# Altium footprint library E-component.PcbLib: 39 footprints (part 3 of 3)
Each footprint in its own frame and in the unit in brackets; x right, y up, seen from the top. Pads: shape width x height; smd on the part's side, far side on the other; paste and mask are expansions set on the pad; w line width, h text height; cw(c..) or ccw(c..) is an arc to the next point about the centre after c.
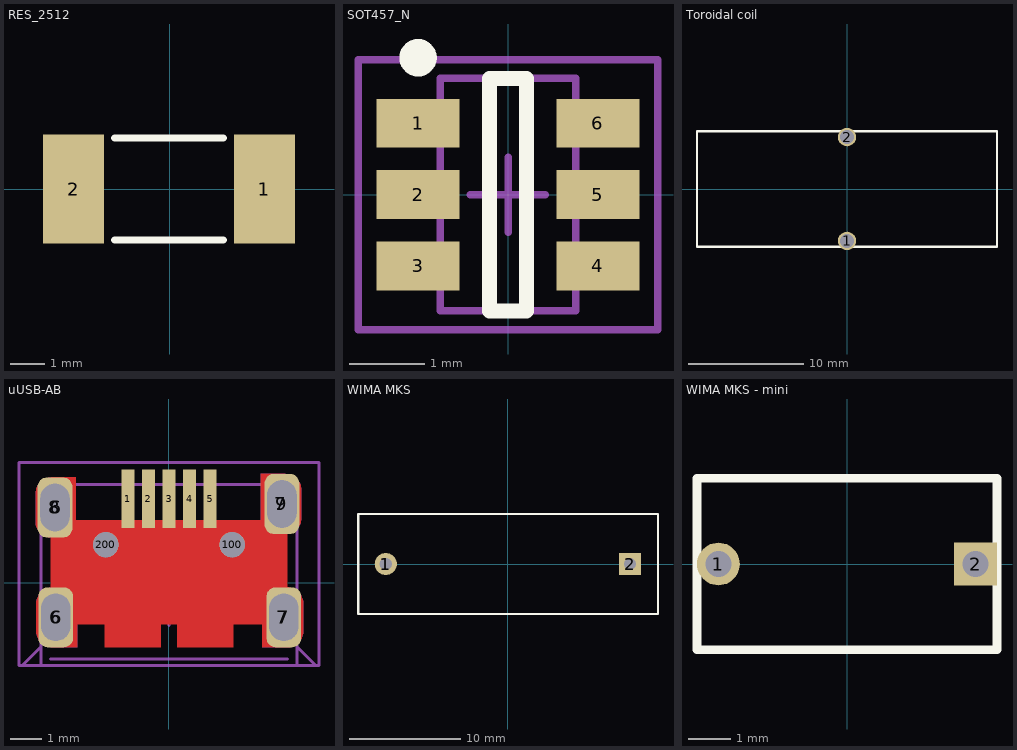
[diagram p2: the footprints below, top view; thin cyan lines are the x and y axes]

## RES_2010 [mm]
height 0.7
3D body: height 0.7, standoff 0, extent -2.5,-1.25 2.5,1.25

## RES_2512 [mm]
height 0.7
pads (2):
  rect 1.8x3.2 smd: 1(2.78,0.007) 2(-2.82,0.007)
Top Overlay:
  lines w0.2: -1.62,-1.493 1.58,-1.493 ; -1.62,1.507 1.58,1.507
3D body: height 0.84, standoff 0, extent -3.3,-1.6 3.3,1.6

## SOT457_N [mm] "SOT23, 6-Leads, Body 2.9x1.5mm, Pitch 0.95mm, Lead Span 2.8mm, IPC Medium Density"
height 1.1
pads (6):
  rect 1.1x0.65 smd: 1(-1.2,0.95) 2(-1.2,0) 3(-1.2,-0.95) 4(1.2,-0.95) 5(1.2,0) 6(1.2,0.95)
Top Overlay:
  circle w0.25: c-1.2,1.825 r0.125
  lines w0.2: -0.25,-1.55 -0.25,1.55 0.25,1.55 0.25,-1.55 -0.25,-1.55
Mechanical 13:
  lines w0.1: -0.9,-1.55 0.9,-1.55 0.9,1.55 -0.9,1.55 -0.9,-1.55
Mechanical 15:
  lines w0.1: -0.5,0 0.5,0 ; 0,-0.5 0,0.5 ; -2,-1.8 2,-1.8 2,1.8 -2,1.8 -2,-1.8
3D body: height 1.1, standoff 0, extent -0.9,-1.55 0.9,1.55

## Toroidal coil [mm]
pads (2):
  round 1.6 hole 1.2: 1(0,-4.5) 2(0,4.5)
Top Overlay:
  lines w0.2: -13,-5 -13,5 13,5 13,-5 -13,-5
3D body: height 14.84, standoff -1.86, extent -6.837,-4.835 6.837,4.663

## uUSB-AB [mm] "Hirose, ZX Series, USB Micro-AB Recept-RA"
height 2.8
pads (15):
  rect 0.4x1.85 smd: 1(-1.3,2.65) 2(-0.65,2.65) 3(0,2.65) 4(0.65,2.65) 5(1.3,2.65)
  rrect52% 1.1x1.9 hole 0.925 slot 1.5 at 90 deg paste+0: 6(-3.587,-1.1) 7(3.638,-1.1) 8(-3.61,2.377) 9(3.577,2.489)
  rrect52% 1.1x1.9 on Top Paste: 6(-3.573,2.377) 6(-3.55,-1.1) 7(3.539,2.489) 7(3.6,-1.1)
  round 0.8 hole 0.8: 100(2,1.2) 200(-2,1.2)
Top Layer:
  rectangle: -2.05,-2.05 -0.25,-0.15
  rectangle: 0.25,-2.05 2.05,-0.15
  pour cut-out: -3.75,1.975 3.75,1.975 3.75,-1.325 -3.75,-1.325
  region: -2.9,-0.15 -3.7,-0.15 -3.794,-0.159 -3.881,-0.185 -3.934,-0.209 -3.98,-0.238 -4.02,-0.268 -4.065,-0.309 -4.096,-0.347 -4.122,-0.384 -4.147,-0.427 -4.16,-0.46 -4.176,-0.5 -4.188,-0.55 -4.196,-0.595 -4.2,-0.65 -4.2,-1.55 -4.196,-1.603 -4.189,-1.648 -4.177,-1.699 -4.161,-1.741 -4.141,-1.783 -4.117,-1.824 -4.089,-1.861 -4.06,-1.897 -4.021,-1.931 -3.983,-1.96 -3.939,-1.988 -3.897,-2.008 -3.854,-2.024 -3.801,-2.039 -3.748,-2.046 -3.7,-2.05 -2.9,-2.05
  region: 2.95,-2.05 3.75,-2.05 3.844,-2.041 3.931,-2.015 3.984,-1.991 4.03,-1.962 4.07,-1.932 4.115,-1.891 4.146,-1.853 4.172,-1.816 4.197,-1.773 4.21,-1.74 4.226,-1.7 4.238,-1.65 4.246,-1.605 4.25,-1.55 4.25,-0.65 4.246,-0.597 4.239,-0.552 4.227,-0.501 4.211,-0.459 4.191,-0.417 4.167,-0.376 4.139,-0.339 4.11,-0.303 4.071,-0.269 4.033,-0.24 3.989,-0.212 3.947,-0.192 3.904,-0.176 3.851,-0.161 3.798,-0.154 3.75,-0.15 2.95,-0.15
  region: -2.95,3.327 -3.723,3.327 -3.817,3.318 -3.904,3.292 -3.957,3.268 -4.003,3.239 -4.043,3.209 -4.088,3.168 -4.119,3.13 -4.145,3.093 -4.17,3.05 -4.183,3.017 -4.199,2.977 -4.211,2.927 -4.219,2.882 -4.223,2.827 -4.223,1.927 -4.219,1.874 -4.212,1.829 -4.2,1.778 -4.184,1.736 -4.164,1.694 -4.14,1.653 -4.112,1.616 -4.083,1.58 -4.044,1.546 -4.006,1.517 -3.962,1.489 -3.92,1.469 -3.877,1.453 -3.824,1.438 -3.771,1.431 -3.723,1.427 -2.95,1.427
  region: 2.9,1.539 3.689,1.539 3.783,1.548 3.87,1.574 3.923,1.598 3.969,1.627 4.009,1.657 4.054,1.698 4.085,1.736 4.111,1.773 4.136,1.816 4.149,1.849 4.165,1.889 4.177,1.939 4.185,1.984 4.189,2.039 4.189,2.939 4.185,2.992 4.178,3.037 4.166,3.088 4.15,3.13 4.13,3.172 4.106,3.213 4.078,3.25 4.049,3.286 4.01,3.32 3.972,3.349 3.928,3.377 3.886,3.397 3.843,3.413 3.79,3.428 3.737,3.435 3.689,3.439 2.9,3.439
Bottom Layer:
  region: 2.95,-2.05 3.75,-2.05 3.844,-2.041 3.931,-2.015 3.984,-1.991 4.03,-1.962 4.07,-1.932 4.115,-1.891 4.146,-1.853 4.172,-1.816 4.197,-1.773 4.21,-1.74 4.226,-1.7 4.238,-1.65 4.246,-1.605 4.25,-1.55 4.25,-0.65 4.246,-0.597 4.239,-0.552 4.227,-0.501 4.211,-0.459 4.191,-0.417 4.167,-0.376 4.139,-0.339 4.11,-0.303 4.071,-0.269 4.033,-0.24 3.989,-0.212 3.947,-0.192 3.904,-0.176 3.851,-0.161 3.798,-0.154 3.75,-0.15 2.95,-0.15
  region: -2.9,-0.15 -3.7,-0.15 -3.794,-0.159 -3.881,-0.185 -3.934,-0.209 -3.98,-0.238 -4.02,-0.268 -4.065,-0.309 -4.096,-0.347 -4.122,-0.384 -4.147,-0.427 -4.16,-0.46 -4.176,-0.5 -4.188,-0.55 -4.196,-0.595 -4.2,-0.65 -4.2,-1.55 -4.196,-1.603 -4.189,-1.648 -4.177,-1.699 -4.161,-1.741 -4.141,-1.783 -4.117,-1.824 -4.089,-1.861 -4.06,-1.897 -4.021,-1.931 -3.983,-1.96 -3.939,-1.988 -3.897,-2.008 -3.854,-2.024 -3.801,-2.039 -3.748,-2.046 -3.7,-2.05 -2.9,-2.05
  region: -3,3.327 -3.723,3.327 -3.817,3.318 -3.904,3.292 -3.957,3.268 -4.003,3.239 -4.043,3.209 -4.088,3.168 -4.119,3.13 -4.145,3.093 -4.17,3.05 -4.183,3.017 -4.199,2.977 -4.211,2.927 -4.219,2.882 -4.223,2.827 -4.223,1.927 -4.219,1.874 -4.212,1.829 -4.2,1.778 -4.184,1.736 -4.164,1.694 -4.14,1.653 -4.112,1.616 -4.083,1.58 -4.044,1.546 -4.006,1.517 -3.962,1.489 -3.92,1.469 -3.877,1.453 -3.824,1.438 -3.771,1.431 -3.723,1.427 -3,1.427
  region: 2.9,1.539 3.689,1.539 3.783,1.548 3.87,1.574 3.923,1.598 3.969,1.627 4.009,1.657 4.054,1.698 4.085,1.736 4.111,1.773 4.136,1.816 4.149,1.849 4.165,1.889 4.177,1.939 4.185,1.984 4.189,2.039 4.189,2.939 4.185,2.992 4.178,3.037 4.166,3.088 4.15,3.13 4.13,3.172 4.106,3.213 4.078,3.25 4.049,3.286 4.01,3.32 3.972,3.349 3.928,3.377 3.886,3.397 3.843,3.413 3.79,3.428 3.737,3.435 3.689,3.439 2.9,3.439
Mechanical 1:
  lines w0.1: -3.75,-2.425 3.75,-2.425
Mechanical 13:
  lines w0.1: -4.05,-2.025 -4.65,-2.625 -4.05,-2.625 ; 4.05,-2.025 4.65,-2.625 4.05,-2.625 ; -4.05,-2.625 -4.05,3.1 4.05,3.1 4.05,-2.625 ; -4.05,-2.625 4.05,-2.625
Mechanical 15:
  lines w0.1: -0.25,-1.1 0.25,-1.1 ; 0,-1.35 0,-0.85 ; -4.75,-2.625 -4.75,3.8 4.75,3.8 4.75,-2.625 -4.75,-2.625
3D body: height 2.78, standoff -0.61, extent -4.325,-2.649 4.325,3.25

## WIMA MKS [mm] "Diode, Axial; Body 9.5 x 5.6 mm (LxDia. max), Lead Dia. 1.32 mm (max)"
height 5.6
pads (2):
  round 2 hole 1.1: 1(-11,0)
  rect 2x2 hole 1.1: 2(11,0)
Top Overlay:
  lines w0.2: -13.5,-4.5 13.5,-4.5 ; -13.5,4.5 13.5,4.5 ; -13.487,-4.496 -13.487,4.496 ; 13.513,-4.496 13.513,4.496
3D body: height 22, standoff -2.81, extent -12.856,-5.08 13.144,4.921

## WIMA MKS - mini [mm] "Diode, Axial; Body 9.5 x 5.6 mm (LxDia. max), Lead Dia. 1.32 mm (max)"
height 5.6
pads (2):
  round 1 hole 0.6: 1(-3,0)
  rect 1x1 hole 0.6: 2(3,0)
Top Overlay:
  lines w0.2: -3.5,-2 -3.5,2 3.5,2 3.5,-2 -3.5,-2
3D body: height 7.08, standoff -0.5, extent -2.48,-1.59 2.6,1.59